# Altium footprint library mikroBUS_Add-on_standard.PcbLib: 3 footprints
Each footprint in its own frame and in the unit in brackets; x right, y up, seen from the top. Pads: shape width x height; smd on the part's side, far side on the other; paste and mask are expansions set on the pad; w line width, h text height; cw(c..) or ccw(c..) is an arc to the next point about the centre after c.
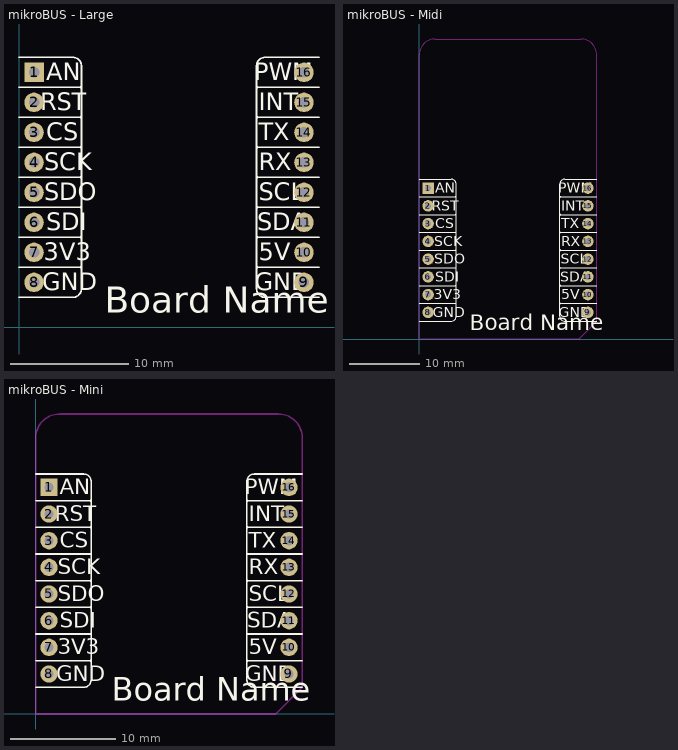
[diagram p0: the footprints below, top view; thin cyan lines are the x and y axes]

## mikroBUS - Large [mil]
height 47.24
pads (16):
  rect 65x65 hole 35: 1(50,850)
  round 65 hole 35: 2(50,750) 3(50,650) 4(50,550) 5(50,450) 6(50,350) 7(50,250) 8(50,150) 9(950,150) 10(950,250) 11(950,350) 12(950,450) 13(950,550) 14(950,650) 15(950,750) 16(950,850)
Top Overlay:
  lines w6: 0,100 180.05,100 ; 0,900 180,900 cw(c180,872.05) 207.95,872.05 ; 180.05,100.05 ccw(c180.05,128) 208,128 208,872.05 ; 208,805 cw(c203,805) 203,800 ; 792,805 ccw(c797,805) 797,800 ; 792,872.05 792,128 ccw(c819.95,128) 819.95,100.05 ; 792.05,872.05 cw(c820,872.05) 820,900 1000,900 ; 819.95,100 1000,100 ; 203,200 cw(c203,195) 208,195 ccw(c203,195) 203,200 ; 203,200 ccw(c203,205) 208,205 208,295 ; 203,200 0,200 203,200 ; 203,300 cw(c203,295) 208,295 ; 203,300 ccw(c203,305) 208,305 208,395 ; 203,300 cw(c203,295) 208,295 ; 203,300 0,300 203,300 ; 203,400 cw(c203,395) 208,395 ; 203,400 ccw(c203,405) 208,405 208,495 ; 203,400 cw(c203,395) 208,395 ; 203,400 0,400 203,400 ; 203,500 cw(c203,495) 208,495 ; 203,500 ccw(c203,505) 208,505 208,595 ; 203,500 cw(c203,495) 208,495 ; 203,500 0,500 203,500 ; 203,600 cw(c203,595) 208,595 ; 203,600 ccw(c203,605) 208,605 208,695 ; 203,600 cw(c203,595) 208,595 ; 203,600 0,600 203,600 ; 203,700 cw(c203,695) 208,695 ; 203,700 ccw(c203,705) 208,705 208,795 ; 203,700 cw(c203,695) 208,695 ; 203,700 0,700 203,700 ; 203,800 cw(c203,795) 208,795 ; 203,800 cw(c203,795) 208,795 ; 203,800 0,800 203,800 ; 792,295 cw(c797,295) 797,300 ; 792,295 cw(c797,295) 797,300 ; 792,295 792,205 ccw(c797,205) 797,200 ; 792,395 cw(c797,395) 797,400 ; 792,395 cw(c797,395) 797,400 ; 792,395 792,305 ccw(c797,305) 797,300 ; 792,495 cw(c797,495) 797,500 ; 792,495 cw(c797,495) 797,500 ; 792,495 792,405 ccw(c797,405) 797,400 ; 792,595 cw(c797,595) 797,600 ; 792,595 cw(c797,595) 797,600 ; 792,595 792,505 ccw(c797,505) 797,500 ; 792,695 cw(c797,695) 797,700 ; 792,695 cw(c797,695) 797,700 ; 792,695 792,605 ccw(c797,605) 797,600 ; 792,795 cw(c797,795) 797,800 ; 792,795 cw(c797,795) 797,800 ; 792,795 792,705 ccw(c797,705) 797,700 ; 797,200 ccw(c797,195) 792,195 cw(c797,195) 797,200 ; 797,200 1000,200 797,200 ; 797,300 1000,300 797,300 ; 797,400 1000,400 797,400 ; 797,500 1000,500 797,500 ; 797,600 1000,600 797,600 ; 797,700 1000,700 797,700 ; 797,800 1000,800 797,800
  text "Board Name" at 285,19 h150
  text "PWM" at 784,803 h100
  text "INT" at 799.79,703 h100
  text "TX" at 799.79,603 h100
  text "RX" at 799.79,503 h100
  text "SCL" at 798.39,403 h100
  text "SDA" at 793.76,303 h100
  text "5V" at 799.79,203 h100
  text "GND" at 786.59,103 h100
  text "AN" at 90,803 h100
  text "GND" at 76.8,103 h100
  text "3V3" at 82.43,203 h100
  text "SDI" at 90,303 h100
  text "SDO" at 83.46,403 h100
  text "SCK" at 83.67,503 h100
  text "CS" at 90,603 h100
  text "RST" at 71.17,703 h100
Bottom Overlay:
  lines w6: 0,100 221.05,100 ; 0,900 221,900 cw(c221,872.05) 248.95,872.05 248.95,128.05 ; 221.05,100.05 ccw(c221.05,128) 249,128 ; 249,128.05 249,195 ccw(c244,195) 244,200 ; 249,805 cw(c244,805) 244,800 ; 751,128 ccw(c778.95,128) 778.95,100.05 ; 751,128.05 751,195 cw(c756,195) 756,200 ; 751,805 ccw(c756,805) 756,800 ; 751.05,128.05 751.05,872.05 cw(c779,872.05) 779,900 1000,900 ; 778.95,100 1000,100 ; 244,200 ccw(c244,205) 249,205 249,295 ccw(c244,295) 244,300 ; 244,200 0,200 244,200 ; 244,300 ccw(c244,305) 249,305 249,395 ccw(c244,395) 244,400 ; 244,300 0,300 244,300 ; 244,400 ccw(c244,405) 249,405 249,495 ccw(c244,495) 244,500 ; 244,400 0,400 244,400 ; 244,500 ccw(c244,505) 249,505 249,595 ccw(c244,595) 244,600 ; 244,500 0,500 244,500 ; 244,600 ccw(c244,605) 249,605 249,695 ccw(c244,695) 244,700 ; 244,600 0,600 244,600 ; 244,700 ccw(c244,705) 249,705 249,795 ccw(c244,795) 244,800 ; 244,700 0,700 244,700 ; 244,800 0,800 244,800 ; 756,200 cw(c756,205) 751,205 751,295 cw(c756,295) 756,300 ; 756,200 1000,200 756,200 ; 756,300 cw(c756,305) 751,305 751,395 cw(c756,395) 756,400 ; 756,300 1000,300 756,300 ; 756,400 cw(c756,405) 751,405 751,495 cw(c756,495) 756,500 ; 756,400 1000,400 756,400 ; 756,500 cw(c756,505) 751,505 751,595 cw(c756,595) 756,600 ; 756,500 1000,500 756,500 ; 756,600 cw(c756,605) 751,605 751,695 cw(c756,695) 756,700 ; 756,600 1000,600 756,600 ; 756,700 cw(c756,705) 751,705 751,795 cw(c756,795) 756,800 ; 756,700 1000,700 756,700 ; 756,800 1000,800 756,800
  text "PWM" at 890,803 h110
  text "INT" at 885.35,703 h110
  text "TX" at 885.35,603 h110
  text "RX" at 885.35,503 h110
  text "SCL" at 885.35,403 h110
  text "SDA" at 885.35,303 h110
  text "5V" at 885.35,203 h110
  text "GND" at 898.55,103 h110
  text "RST" at 248.83,703 h110
  text "CS" at 230,603 h110
  text "SCK" at 230,503 h110
  text "SDO" at 230,403 h110
  text "SDI" at 230,303 h110
  text "3V3" at 237.57,203 h110
  text "GND" at 243.2,103 h110
  text "AN" at 230,803 h110
3D body "WiFi_PLUS_click_v101.step": height 735.43, standoff 133.46, extent -11.44,-16 1004,2120
3D body "1x4.STEP": height 354.33, standoff -340.16, extent 900,100 1000,500
3D body "1x4.STEP": height 354.33, standoff -340.16, extent 900,500 1000,900
3D body "1x4.STEP": height 354.33, standoff -340.16, extent 0,100 100,500
3D body "1x4.STEP": height 354.33, standoff -340.16, extent 0,500 100,900

## mikroBUS - Midi [mil]
height 47.24
pads (16):
  rect 65x65 hole 35: 1(50,850)
  round 65 hole 35: 2(50,750) 3(50,650) 4(50,550) 5(50,450) 6(50,350) 7(50,250) 8(50,150) 9(950,150) 10(950,250) 11(950,350) 12(950,450) 13(950,550) 14(950,650) 15(950,750) 16(950,850)
Top Overlay:
  lines w6: 0,100 180.05,100 ; 0,900 180,900 cw(c180,872.05) 207.95,872.05 ; 180.05,100.05 ccw(c180.05,128) 208,128 208,872.05 ; 208,805 cw(c203,805) 203,800 ; 792,805 ccw(c797,805) 797,800 ; 792,872.05 792,128 ccw(c819.95,128) 819.95,100.05 ; 792.05,872.05 cw(c820,872.05) 820,900 1000,900 ; 819.95,100 1000,100 ; 203,200 cw(c203,195) 208,195 ccw(c203,195) 203,200 ; 203,200 ccw(c203,205) 208,205 208,295 ; 203,200 0,200 203,200 ; 203,300 cw(c203,295) 208,295 ; 203,300 ccw(c203,305) 208,305 208,395 ; 203,300 cw(c203,295) 208,295 ; 203,300 0,300 203,300 ; 203,400 cw(c203,395) 208,395 ; 203,400 ccw(c203,405) 208,405 208,495 ; 203,400 cw(c203,395) 208,395 ; 203,400 0,400 203,400 ; 203,500 cw(c203,495) 208,495 ; 203,500 ccw(c203,505) 208,505 208,595 ; 203,500 cw(c203,495) 208,495 ; 203,500 0,500 203,500 ; 203,600 cw(c203,595) 208,595 ; 203,600 ccw(c203,605) 208,605 208,695 ; 203,600 cw(c203,595) 208,595 ; 203,600 0,600 203,600 ; 203,700 cw(c203,695) 208,695 ; 203,700 ccw(c203,705) 208,705 208,795 ; 203,700 cw(c203,695) 208,695 ; 203,700 0,700 203,700 ; 203,800 cw(c203,795) 208,795 ; 203,800 cw(c203,795) 208,795 ; 203,800 0,800 203,800 ; 792,295 cw(c797,295) 797,300 ; 792,295 cw(c797,295) 797,300 ; 792,295 792,205 ccw(c797,205) 797,200 ; 792,395 cw(c797,395) 797,400 ; 792,395 cw(c797,395) 797,400 ; 792,395 792,305 ccw(c797,305) 797,300 ; 792,495 cw(c797,495) 797,500 ; 792,495 cw(c797,495) 797,500 ; 792,495 792,405 ccw(c797,405) 797,400 ; 792,595 cw(c797,595) 797,600 ; 792,595 cw(c797,595) 797,600 ; 792,595 792,505 ccw(c797,505) 797,500 ; 792,695 cw(c797,695) 797,700 ; 792,695 cw(c797,695) 797,700 ; 792,695 792,605 ccw(c797,605) 797,600 ; 792,795 cw(c797,795) 797,800 ; 792,795 cw(c797,795) 797,800 ; 792,795 792,705 ccw(c797,705) 797,700 ; 797,200 ccw(c797,195) 792,195 cw(c797,195) 797,200 ; 797,200 1000,200 797,200 ; 797,300 1000,300 797,300 ; 797,400 1000,400 797,400 ; 797,500 1000,500 797,500 ; 797,600 1000,600 797,600 ; 797,700 1000,700 797,700 ; 797,800 1000,800 797,800
  text "Board Name" at 285,19 h150
  text "PWM" at 784,803 h100
  text "INT" at 799.79,703 h100
  text "TX" at 799.79,603 h100
  text "RX" at 799.79,503 h100
  text "SCL" at 798.39,403 h100
  text "SDA" at 793.76,303 h100
  text "5V" at 799.79,203 h100
  text "GND" at 786.59,103 h100
  text "AN" at 90,803 h100
  text "GND" at 76.8,103 h100
  text "3V3" at 82.43,203 h100
  text "SDI" at 90,303 h100
  text "SDO" at 83.46,403 h100
  text "SCK" at 83.67,503 h100
  text "CS" at 90,603 h100
  text "RST" at 71.17,703 h100
Bottom Overlay:
  lines w6: 0,100 221.05,100 ; 0,900 221,900 cw(c221,872.05) 248.95,872.05 248.95,128.05 ; 221.05,100.05 ccw(c221.05,128) 249,128 ; 249,128.05 249,195 ccw(c244,195) 244,200 ; 249,805 cw(c244,805) 244,800 ; 751,128 ccw(c778.95,128) 778.95,100.05 ; 751,128.05 751,195 cw(c756,195) 756,200 ; 751,805 ccw(c756,805) 756,800 ; 751.05,128.05 751.05,872.05 cw(c779,872.05) 779,900 1000,900 ; 778.95,100 1000,100 ; 244,200 ccw(c244,205) 249,205 249,295 ccw(c244,295) 244,300 ; 244,200 0,200 244,200 ; 244,300 ccw(c244,305) 249,305 249,395 ccw(c244,395) 244,400 ; 244,300 0,300 244,300 ; 244,400 ccw(c244,405) 249,405 249,495 ccw(c244,495) 244,500 ; 244,400 0,400 244,400 ; 244,500 ccw(c244,505) 249,505 249,595 ccw(c244,595) 244,600 ; 244,500 0,500 244,500 ; 244,600 ccw(c244,605) 249,605 249,695 ccw(c244,695) 244,700 ; 244,600 0,600 244,600 ; 244,700 ccw(c244,705) 249,705 249,795 ccw(c244,795) 244,800 ; 244,700 0,700 244,700 ; 244,800 0,800 244,800 ; 756,200 cw(c756,205) 751,205 751,295 cw(c756,295) 756,300 ; 756,200 1000,200 756,200 ; 756,300 cw(c756,305) 751,305 751,395 cw(c756,395) 756,400 ; 756,300 1000,300 756,300 ; 756,400 cw(c756,405) 751,405 751,495 cw(c756,495) 756,500 ; 756,400 1000,400 756,400 ; 756,500 cw(c756,505) 751,505 751,595 cw(c756,595) 756,600 ; 756,500 1000,500 756,500 ; 756,600 cw(c756,605) 751,605 751,695 cw(c756,695) 756,700 ; 756,600 1000,600 756,600 ; 756,700 cw(c756,705) 751,705 751,795 cw(c756,795) 756,800 ; 756,700 1000,700 756,700 ; 756,800 1000,800 756,800
  text "PWM" at 890,803 h110
  text "INT" at 885.35,703 h110
  text "TX" at 885.35,603 h110
  text "RX" at 885.35,503 h110
  text "SCL" at 885.35,403 h110
  text "SDA" at 885.35,303 h110
  text "5V" at 885.35,203 h110
  text "GND" at 898.55,103 h110
  text "RST" at 248.83,703 h110
  text "CS" at 230,603 h110
  text "SCK" at 230,503 h110
  text "SDO" at 230,403 h110
  text "SDI" at 230,303 h110
  text "3V3" at 237.57,203 h110
  text "GND" at 243.2,103 h110
  text "AN" at 230,803 h110
Keep-Out Layer:
  lines w6: 0,0 0,1600 cw(c90,1600) 90,1690 910,1690 cw(c910,1600) 1000,1600 1000,100 900,0 0,0
3D body "Header 1x8.stp": height 81.88, standoff -398.04, extent 895,100 1009.96,900
3D body "Header 1x8.stp": height 81.88, standoff -398.04, extent -5,100 109.96,900

## mikroBUS - Mini [mil]
height 47.24
pads (16):
  rect 65x65 hole 35: 1(50,850)
  round 65 hole 35: 2(50,750) 3(50,650) 4(50,550) 5(50,450) 6(50,350) 7(50,250) 8(50,150) 9(950,150) 10(950,250) 11(950,350) 12(950,450) 13(950,550) 14(950,650) 15(950,750) 16(950,850)
Top Overlay:
  lines w6: 0,100 180.05,100 ; 0,900 180,900 cw(c180,872.05) 207.95,872.05 ; 180.05,100.05 ccw(c180.05,128) 208,128 208,872.05 ; 208,805 cw(c203,805) 203,800 ; 792,805 ccw(c797,805) 797,800 ; 792,872.05 792,128 ccw(c819.95,128) 819.95,100.05 ; 792.05,872.05 cw(c820,872.05) 820,900 1000,900 ; 819.95,100 1000,100 ; 203,200 cw(c203,195) 208,195 ccw(c203,195) 203,200 ; 203,200 ccw(c203,205) 208,205 208,295 ; 203,200 0,200 203,200 ; 203,300 cw(c203,295) 208,295 ; 203,300 ccw(c203,305) 208,305 208,395 ; 203,300 cw(c203,295) 208,295 ; 203,300 0,300 203,300 ; 203,400 cw(c203,395) 208,395 ; 203,400 ccw(c203,405) 208,405 208,495 ; 203,400 cw(c203,395) 208,395 ; 203,400 0,400 203,400 ; 203,500 cw(c203,495) 208,495 ; 203,500 ccw(c203,505) 208,505 208,595 ; 203,500 cw(c203,495) 208,495 ; 203,500 0,500 203,500 ; 203,600 cw(c203,595) 208,595 ; 203,600 ccw(c203,605) 208,605 208,695 ; 203,600 cw(c203,595) 208,595 ; 203,600 0,600 203,600 ; 203,700 cw(c203,695) 208,695 ; 203,700 ccw(c203,705) 208,705 208,795 ; 203,700 cw(c203,695) 208,695 ; 203,700 0,700 203,700 ; 203,800 cw(c203,795) 208,795 ; 203,800 cw(c203,795) 208,795 ; 203,800 0,800 203,800 ; 792,295 cw(c797,295) 797,300 ; 792,295 cw(c797,295) 797,300 ; 792,295 792,205 ccw(c797,205) 797,200 ; 792,395 cw(c797,395) 797,400 ; 792,395 cw(c797,395) 797,400 ; 792,395 792,305 ccw(c797,305) 797,300 ; 792,495 cw(c797,495) 797,500 ; 792,495 cw(c797,495) 797,500 ; 792,495 792,405 ccw(c797,405) 797,400 ; 792,595 cw(c797,595) 797,600 ; 792,595 cw(c797,595) 797,600 ; 792,595 792,505 ccw(c797,505) 797,500 ; 792,695 cw(c797,695) 797,700 ; 792,695 cw(c797,695) 797,700 ; 792,695 792,605 ccw(c797,605) 797,600 ; 792,795 cw(c797,795) 797,800 ; 792,795 cw(c797,795) 797,800 ; 792,795 792,705 ccw(c797,705) 797,700 ; 797,200 ccw(c797,195) 792,195 cw(c797,195) 797,200 ; 797,200 1000,200 797,200 ; 797,300 1000,300 797,300 ; 797,400 1000,400 797,400 ; 797,500 1000,500 797,500 ; 797,600 1000,600 797,600 ; 797,700 1000,700 797,700 ; 797,800 1000,800 797,800
  text "Board Name" at 285,19 h150
  text "PWM" at 784,803 h100
  text "INT" at 799.79,703 h100
  text "TX" at 799.79,603 h100
  text "RX" at 799.79,503 h100
  text "SCL" at 798.39,403 h100
  text "SDA" at 793.76,303 h100
  text "5V" at 799.79,203 h100
  text "GND" at 786.59,103 h100
  text "AN" at 90,803 h100
  text "GND" at 76.8,103 h100
  text "3V3" at 82.43,203 h100
  text "SDI" at 90,303 h100
  text "SDO" at 83.46,403 h100
  text "SCK" at 83.67,503 h100
  text "CS" at 90,603 h100
  text "RST" at 71.17,703 h100
Bottom Overlay:
  lines w6: 0,100 221.05,100 ; 0,900 221,900 cw(c221,872.05) 248.95,872.05 248.95,128.05 ; 221.05,100.05 ccw(c221.05,128) 249,128 ; 249,128.05 249,195 ccw(c244,195) 244,200 ; 249,805 cw(c244,805) 244,800 ; 751,128 ccw(c778.95,128) 778.95,100.05 ; 751,128.05 751,195 cw(c756,195) 756,200 ; 751,805 ccw(c756,805) 756,800 ; 751.05,128.05 751.05,872.05 cw(c779,872.05) 779,900 1000,900 ; 778.95,100 1000,100 ; 244,200 ccw(c244,205) 249,205 249,295 ccw(c244,295) 244,300 ; 244,200 0,200 244,200 ; 244,300 ccw(c244,305) 249,305 249,395 ccw(c244,395) 244,400 ; 244,300 0,300 244,300 ; 244,400 ccw(c244,405) 249,405 249,495 ccw(c244,495) 244,500 ; 244,400 0,400 244,400 ; 244,500 ccw(c244,505) 249,505 249,595 ccw(c244,595) 244,600 ; 244,500 0,500 244,500 ; 244,600 ccw(c244,605) 249,605 249,695 ccw(c244,695) 244,700 ; 244,600 0,600 244,600 ; 244,700 ccw(c244,705) 249,705 249,795 ccw(c244,795) 244,800 ; 244,700 0,700 244,700 ; 244,800 0,800 244,800 ; 756,200 cw(c756,205) 751,205 751,295 cw(c756,295) 756,300 ; 756,200 1000,200 756,200 ; 756,300 cw(c756,305) 751,305 751,395 cw(c756,395) 756,400 ; 756,300 1000,300 756,300 ; 756,400 cw(c756,405) 751,405 751,495 cw(c756,495) 756,500 ; 756,400 1000,400 756,400 ; 756,500 cw(c756,505) 751,505 751,595 cw(c756,595) 756,600 ; 756,500 1000,500 756,500 ; 756,600 cw(c756,605) 751,605 751,695 cw(c756,695) 756,700 ; 756,600 1000,600 756,600 ; 756,700 cw(c756,705) 751,705 751,795 cw(c756,795) 756,800 ; 756,700 1000,700 756,700 ; 756,800 1000,800 756,800
  text "PWM" at 890,803 h110
  text "INT" at 885.35,703 h110
  text "TX" at 885.35,603 h110
  text "RX" at 885.35,503 h110
  text "SCL" at 885.35,403 h110
  text "SDA" at 885.35,303 h110
  text "5V" at 885.35,203 h110
  text "GND" at 898.55,103 h110
  text "RST" at 248.83,703 h110
  text "CS" at 230,603 h110
  text "SCK" at 230,503 h110
  text "SDO" at 230,403 h110
  text "SDI" at 230,303 h110
  text "3V3" at 237.57,203 h110
  text "GND" at 243.2,103 h110
  text "AN" at 230,803 h110
Keep-Out Layer:
  lines w6: 0,0 0,1035 cw(c90,1035) 90,1125 910,1125 cw(c910,1035) 1000,1035 1000,100 900,0 0,0
3D body "Header 1x8.stp": height 81.88, standoff -398.04, extent 895,100 1009.96,900
3D body "Header 1x8.stp": height 81.88, standoff -398.04, extent -5,100 109.96,900